# EAGLE library part AD8421 (library analog-devices)
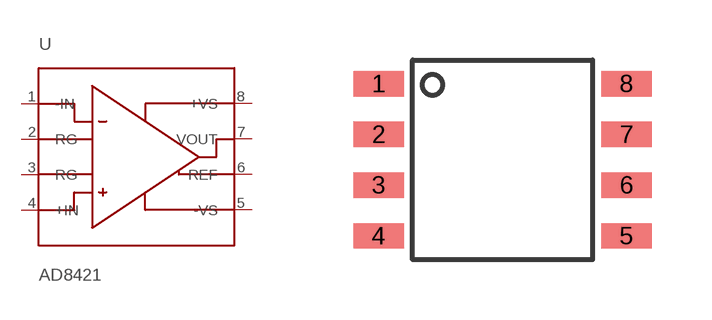
[diagram p32: symbol with the pads of SOIC8; footprint SOIC8]

Designator prefix -

## AD8421  [SOIC8]
1  -IN
2  RG
3  RG
4  +IN
5  -VS
6  REF
7  VOUT
8  +VS

## Footprint SOIC8 (pad centres in mm)
smd 1.27 x 0.635: 1 -3.1,1.905; 2 -3.1,0.635; 3 -3.1,-0.635; 4 -3.1,-1.905; 5 3.1,-1.905; 6 3.1,-0.635; 7 3.1,0.635; 8 3.1,1.905